# Altium integrated library BB Converter Analog to Digital.IntLib: 242 symbols (part 4 of 6)
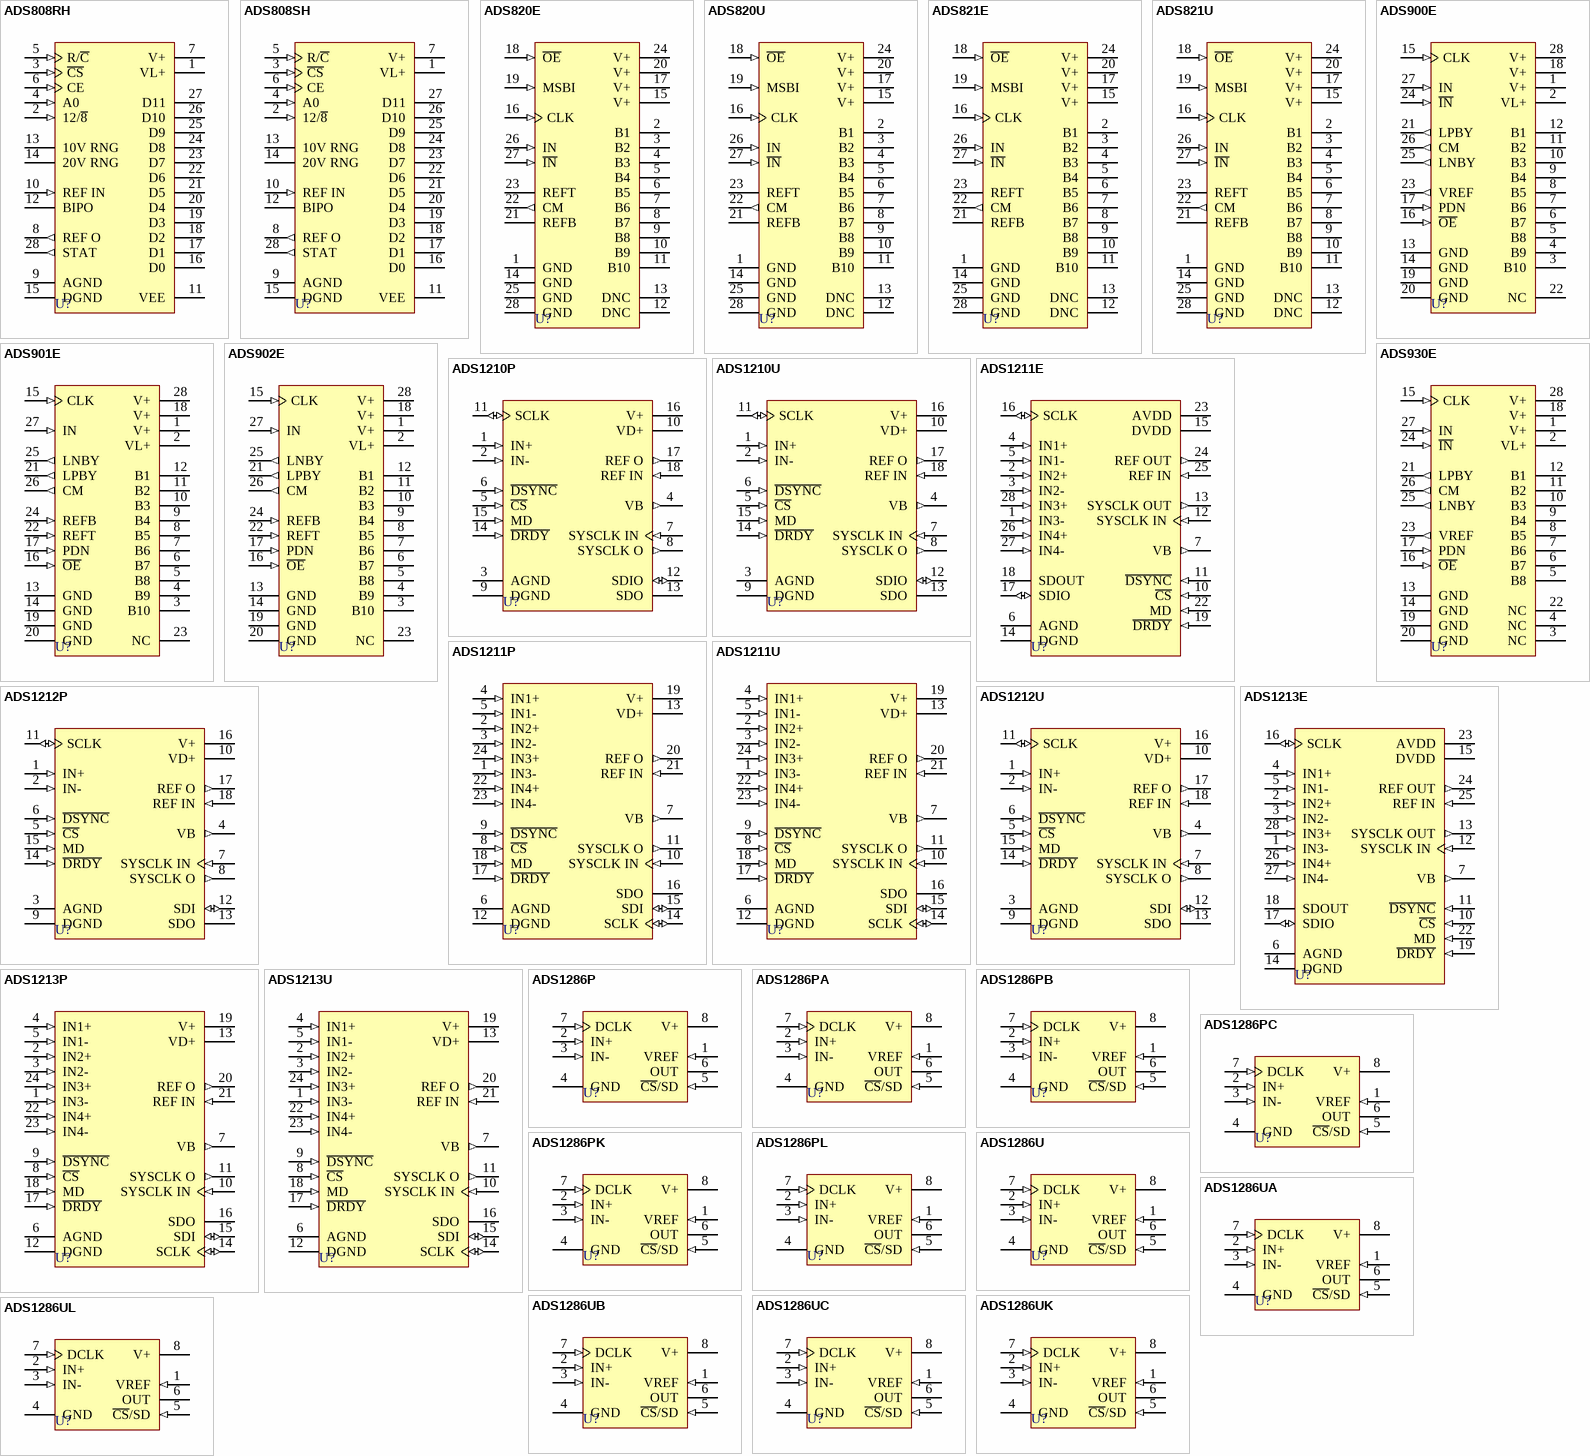
[diagram p12: symbols ADS808RH to ADS1286UL]

## ADS1286UL
designator U?
12-Bit Micro Power Sampling Analog-to-Digital Converter; Published: 8-Jun-2000; LatestRevisionDate: 13-Apr-2006; LatestRevisionNote: IPC-7351 Footprint Added.; DatasheetVersion: Oct-1998; PackageReference: 182H; Publisher: Altium Limited; PackageDescription: 8-Pin Small Outline Integrated Circuit 1.27 mm Pitch; Code_JEDEC: MS-012-AA; Code_IPC: SOIC127P600-8; ComponentLink1Description: Manufacturer Link; ComponentLink1URL: http://www.ti.com/; ComponentLink2Description: Datasheet; ComponentLink2URL: http://www-s.ti.com/sc/ds/ads1286.pdf
footprint 182H_N (SOIC, 8-Leads, Body 4.9x3.9mm, Pitch 1.27mm, IPC Medium Density)
footprint 182H_L (SOIC, 8-Leads, Body 4.9x3.9mm, Pitch 1.27mm, IPC High Density)
footprint 182H_M (SOIC, 8-Leads, Body 4.9x3.9mm, Pitch 1.27mm, IPC Low Density)
3D model SOIC8 (8-Pin Small Outline Integrated Circuit 1.27 mm Pitch)
pins: 1 VREF (in), 2 IN+ (in), 3 IN- (in), 4 GND (power), 5 ~{CS}/SD (in), 6 OUT (hiz), 7 DCLK (in), 8 V+ (power)

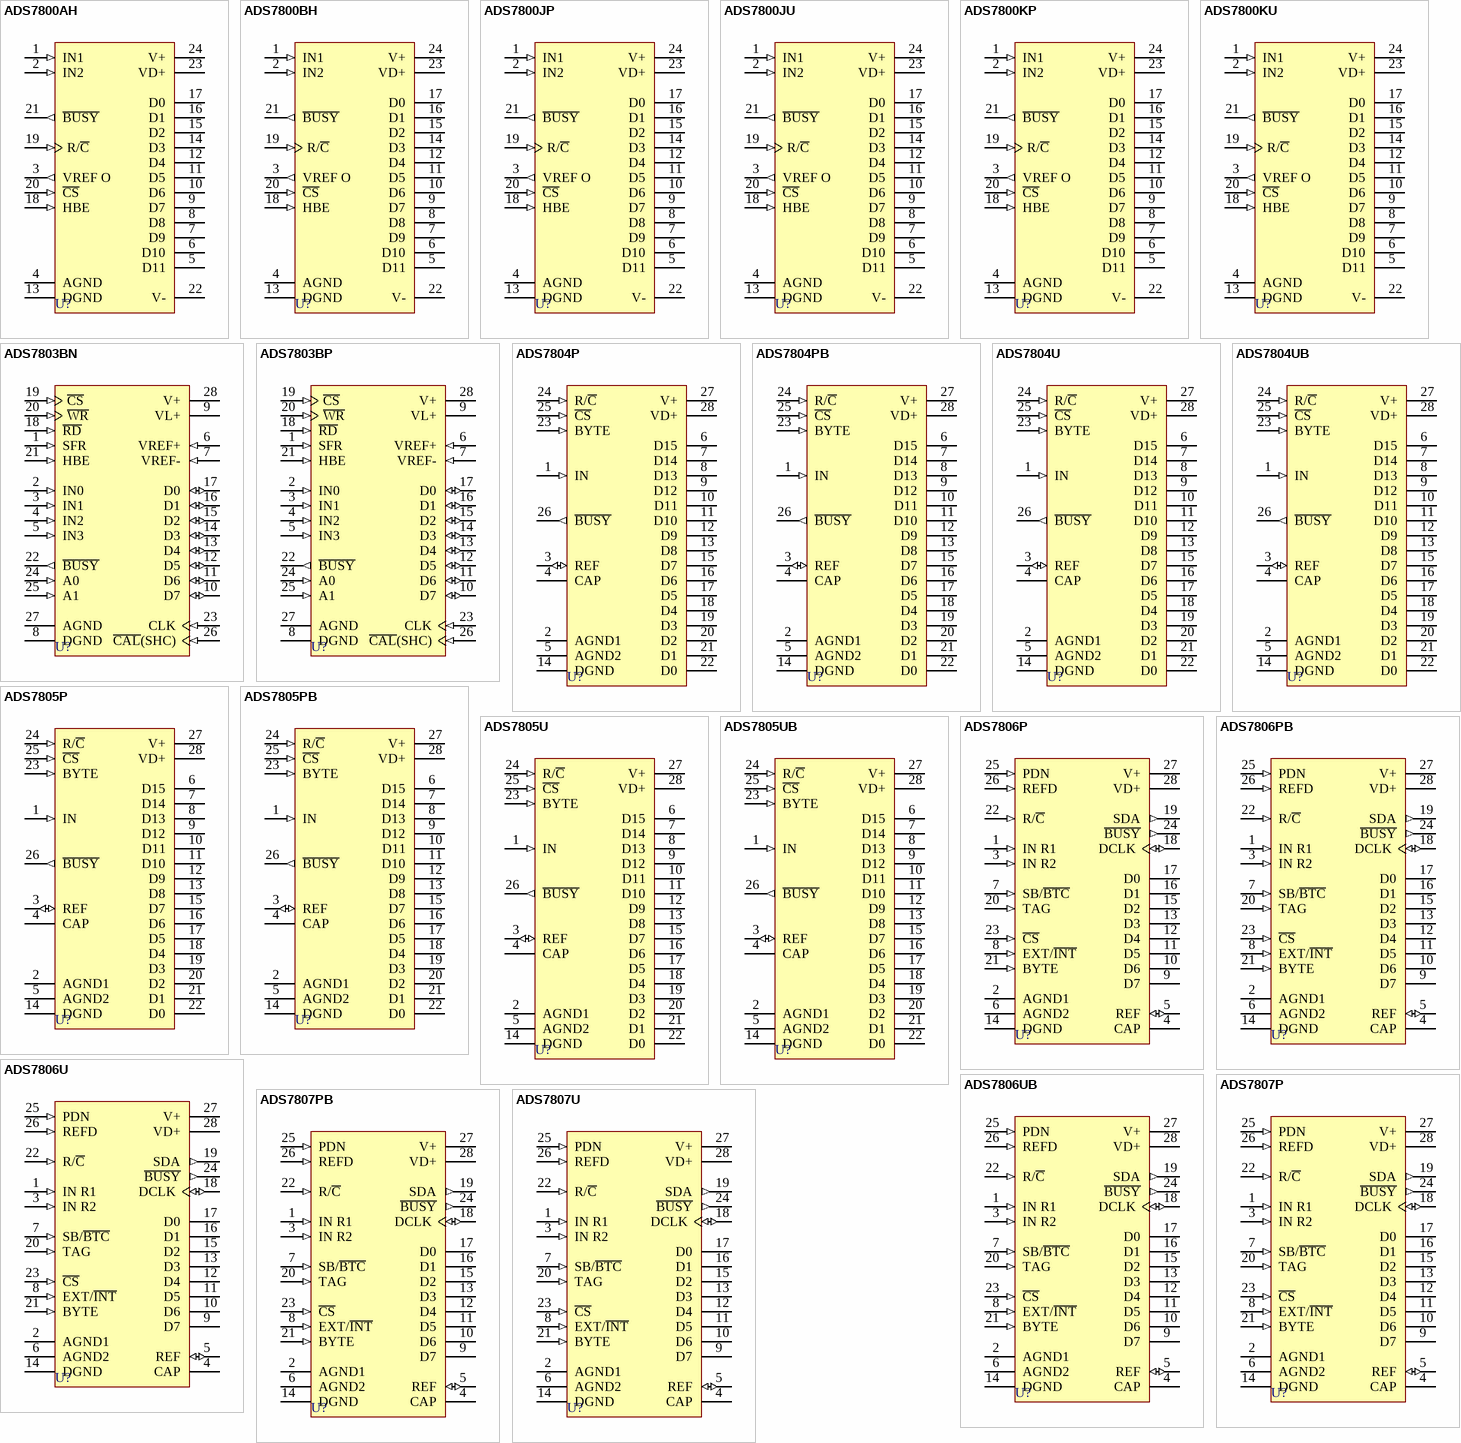
[diagram p6: symbols ADS7800AH to ADS7807U]

## ADS7800AH
designator U?
12-Bit 3us Sampling Analog-to-Digital Converter; Published: 8-Jun-2000; LatestRevisionDate: 06-Jun-2005; LatestRevisionNote: Stylized 3D Model Added.; DatasheetVersion: Oct-1993; PackageVersion: 1994; PackageReference: 245; Publisher: Altium Limited; PackageDescription: DIP; 24 Leads; Row Spacing 7.62 mm; Pitch 2.54 mm; ComponentLink1Description: Manufacturer Link; ComponentLink1URL: http://www.ti.com/; ComponentLink2Description: Datasheet; ComponentLink2URL: http://www-s.ti.com/sc/ds/ADS7800.pdf
footprint 245 (DIP; 24 Leads; Row Spacing 7.62 mm; Pitch 2.54 mm)
3D model 243-3A (DIP; 24 Leads; Row Spacing 7.62 mm; Pitch 2.54 mm)
pins: 1 IN1 (in), 2 IN2 (in), 3 VREF O (out), 4 AGND (power), 5 D11 (hiz), 6 D10 (hiz), 7 D9 (hiz), 8 D8 (hiz), 9 D7 (hiz), 10 D6 (hiz), 11 D5 (hiz), 12 D4 (hiz), 13 DGND (power), 14 D3 (hiz), 15 D2 (hiz), 16 D1 (hiz), 17 D0 (hiz), 18 HBE (in), 19 R/~{C} (in), 20 ~{CS} (in), 21 ~{BUSY} (out), 22 V- (power), 23 VD+ (power), 24 V+ (power)

## ADS7800BH
designator U?
12-Bit 3us Sampling Analog-to-Digital Converter; Published: 8-Jun-2000; LatestRevisionDate: 06-Jun-2005; LatestRevisionNote: Stylized 3D Model Added.; DatasheetVersion: Oct-1993; PackageVersion: 1994; PackageReference: 245; Publisher: Altium Limited; PackageDescription: DIP; 24 Leads; Row Spacing 7.62 mm; Pitch 2.54 mm; ComponentLink1Description: Manufacturer Link; ComponentLink1URL: http://www.ti.com/; ComponentLink2Description: Datasheet; ComponentLink2URL: http://www-s.ti.com/sc/ds/ADS7800.pdf
footprint 245 (DIP; 24 Leads; Row Spacing 7.62 mm; Pitch 2.54 mm)
3D model 243-3A (DIP; 24 Leads; Row Spacing 7.62 mm; Pitch 2.54 mm)
pins: 1 IN1 (in), 2 IN2 (in), 3 VREF O (out), 4 AGND (power), 5 D11 (hiz), 6 D10 (hiz), 7 D9 (hiz), 8 D8 (hiz), 9 D7 (hiz), 10 D6 (hiz), 11 D5 (hiz), 12 D4 (hiz), 13 DGND (power), 14 D3 (hiz), 15 D2 (hiz), 16 D1 (hiz), 17 D0 (hiz), 18 HBE (in), 19 R/~{C} (in), 20 ~{CS} (in), 21 ~{BUSY} (out), 22 V- (power), 23 VD+ (power), 24 V+ (power)

## ADS7800JP
designator U?
12-Bit 3us Sampling Analog-to-Digital Converter; Published: 8-Jun-2000; LatestRevisionDate: 06-Jun-2005; LatestRevisionNote: Stylized 3D Model Added.; DatasheetVersion: Oct-1993; PackageVersion: revD; PackageReference: 243D; Publisher: Altium Limited; PackageDescription: DIP; 24 Leads; Row Spacing 7.62 mm; Pitch 2.54 mm; Code_JEDEC: MS-001-AF; ComponentLink1Description: Manufacturer Link; ComponentLink1URL: http://www.ti.com/; ComponentLink2Description: Datasheet; ComponentLink2URL: http://www-s.ti.com/sc/ds/ADS7800.pdf
footprint 243D (DIP; 24 Leads; Row Spacing 7.62 mm; Pitch 2.54 mm)
3D model 243 (DIP; 24 Leads; Row Spacing 7.62 mm; Pitch 2.54 mm)
pins: 1 IN1 (in), 2 IN2 (in), 3 VREF O (out), 4 AGND (power), 5 D11 (hiz), 6 D10 (hiz), 7 D9 (hiz), 8 D8 (hiz), 9 D7 (hiz), 10 D6 (hiz), 11 D5 (hiz), 12 D4 (hiz), 13 DGND (power), 14 D3 (hiz), 15 D2 (hiz), 16 D1 (hiz), 17 D0 (hiz), 18 HBE (in), 19 R/~{C} (in), 20 ~{CS} (in), 21 ~{BUSY} (out), 22 V- (power), 23 VD+ (power), 24 V+ (power)

## ADS7800JU
designator U?
12-Bit 3us Sampling Analog-to-Digital Converter; Published: 8-Jun-2000; LatestRevisionDate: 13-Apr-2006; LatestRevisionNote: IPC-7351 Footprint Added.; DatasheetVersion: Oct-1993; PackageReference: 239E; Publisher: Altium Limited; PackageDescription: 24-Pin Small Outline Integrated Circuit 1.27 mm Pitch; ComponentLink1Description: Manufacturer Link; ComponentLink1URL: http://www.ti.com/; ComponentLink2Description: Datasheet; ComponentLink2URL: http://www-s.ti.com/sc/ds/ADS7800.pdf
footprint 239E_N (SOIC, 24-Leads, Body 15.4x7.5mm, Pitch 1.27mm, IPC Medium Density)
footprint 239E_L (SOIC, 24-Leads, Body 15.4x7.5mm, Pitch 1.27mm, IPC High Density)
footprint 239E_M (SOIC, 24-Leads, Body 15.4x7.5mm, Pitch 1.27mm, IPC Low Density)
3D model 239 (24-Pin Small Outline Integrated Circuit 1.27 mm Pitch)
pins: 1 IN1 (in), 2 IN2 (in), 3 VREF O (out), 4 AGND (power), 5 D11 (hiz), 6 D10 (hiz), 7 D9 (hiz), 8 D8 (hiz), 9 D7 (hiz), 10 D6 (hiz), 11 D5 (hiz), 12 D4 (hiz), 13 DGND (power), 14 D3 (hiz), 15 D2 (hiz), 16 D1 (hiz), 17 D0 (hiz), 18 HBE (in), 19 R/~{C} (in), 20 ~{CS} (in), 21 ~{BUSY} (out), 22 V- (power), 23 VD+ (power), 24 V+ (power)

## ADS7800KP
designator U?
12-Bit 3us Sampling Analog-to-Digital Converter; Published: 8-Jun-2000; LatestRevisionDate: 06-Jun-2005; LatestRevisionNote: Stylized 3D Model Added.; DatasheetVersion: Oct-1993; PackageVersion: 1995; PackageReference: 243; Publisher: Altium Limited; PackageDescription: DIP; 24 Leads; Row Spacing 7.62 mm; Pitch 2.54 mm; Code_JEDEC: MS-001-AF; ComponentLink1Description: Manufacturer Link; ComponentLink1URL: http://www.ti.com/; ComponentLink2Description: Datasheet; ComponentLink2URL: http://www-s.ti.com/sc/ds/ADS7800.pdf
footprint 243 (DIP; 24 Leads; Row Spacing 7.62 mm; Pitch 2.54 mm)
3D model 243 (DIP; 24 Leads; Row Spacing 7.62 mm; Pitch 2.54 mm)
pins: 1 IN1 (in), 2 IN2 (in), 3 VREF O (out), 4 AGND (power), 5 D11 (hiz), 6 D10 (hiz), 7 D9 (hiz), 8 D8 (hiz), 9 D7 (hiz), 10 D6 (hiz), 11 D5 (hiz), 12 D4 (hiz), 13 DGND (power), 14 D3 (hiz), 15 D2 (hiz), 16 D1 (hiz), 17 D0 (hiz), 18 HBE (in), 19 R/~{C} (in), 20 ~{CS} (in), 21 ~{BUSY} (out), 22 V- (power), 23 VD+ (power), 24 V+ (power)

## ADS7800KU
designator U?
12-Bit 3us Sampling Analog-to-Digital Converter; Published: 8-Jun-2000; LatestRevisionDate: 13-Apr-2006; LatestRevisionNote: IPC-7351 Footprint Added.; DatasheetVersion: Oct-1993; PackageReference: 239E; Publisher: Altium Limited; PackageDescription: 24-Pin Small Outline Integrated Circuit 1.27 mm Pitch; ComponentLink1Description: Manufacturer Link; ComponentLink1URL: http://www.ti.com/; ComponentLink2Description: Datasheet; ComponentLink2URL: http://www-s.ti.com/sc/ds/ADS7800.pdf
footprint 239E_N (SOIC, 24-Leads, Body 15.4x7.5mm, Pitch 1.27mm, IPC Medium Density)
footprint 239E_L (SOIC, 24-Leads, Body 15.4x7.5mm, Pitch 1.27mm, IPC High Density)
footprint 239E_M (SOIC, 24-Leads, Body 15.4x7.5mm, Pitch 1.27mm, IPC Low Density)
3D model 239 (24-Pin Small Outline Integrated Circuit 1.27 mm Pitch)
pins: 1 IN1 (in), 2 IN2 (in), 3 VREF O (out), 4 AGND (power), 5 D11 (hiz), 6 D10 (hiz), 7 D9 (hiz), 8 D8 (hiz), 9 D7 (hiz), 10 D6 (hiz), 11 D5 (hiz), 12 D4 (hiz), 13 DGND (power), 14 D3 (hiz), 15 D2 (hiz), 16 D1 (hiz), 17 D0 (hiz), 18 HBE (in), 19 R/~{C} (in), 20 ~{CS} (in), 21 ~{BUSY} (out), 22 V- (power), 23 VD+ (power), 24 V+ (power)

## ADS7803BN
designator U?
Autocalibrating, 4-Channel, 12-Bit Analog-to-Digital Converter; Published: 8-Jun-2000; LatestRevisionDate: 13-Apr-2006; LatestRevisionNote: IPC-7351 Footprint Added.; DatasheetVersion: 1994; PackageReference: 251A; Publisher: Altium Limited; PackageDescription: 28-Pin Leaded Chip Carrier 1.27 mm Pitch; ComponentLink1Description: Manufacturer Link; ComponentLink1URL: http://www.ti.com/
footprint 251A_N (Leaded Chip Carrier, 28-Leads, Body 11.6x11.6mm, Pitch 1.27mm, IPC Medium Density)
footprint 251A_L (Leaded Chip Carrier, 28-Leads, Body 11.6x11.6mm, Pitch 1.27mm, IPC High Density)
footprint 251A_M (Leaded Chip Carrier, 28-Leads, Body 11.6x11.6mm, Pitch 1.27mm, IPC Low Density)
3D model ADS7803BN-LCC28 (28-Pin Leaded Chip Carrier 1.27 mm Pitch)
pins: 1 SFR (in), 2 IN0 (in), 3 IN1 (in), 4 IN2 (in), 5 IN3 (in), 6 VREF+ (in), 7 VREF- (in), 8 DGND (power), 9 VL+ (power), 10 D7 (io), 11 D6 (io), 12 D5 (io), 13 D4 (io), 14 D3 (io), 15 D2 (io), 16 D1 (io), 17 D0 (io), 18 ~{RD} (in), 19 ~{CS} (in), 20 ~{WR} (in), 21 HBE (in), 22 ~{BUSY} (out), 23 CLK (in), 24 A0 (in), 25 A1 (in), 26 ~{CAL}(SHC) (in), 27 AGND (power), 28 V+ (power)

## ADS7803BP
designator U?
Autocalibrating, 4-Channel, 12-Bit Analog-to-Digital Converter; Published: 8-Jun-2000; LatestRevisionDate: 06-Jun-2005; LatestRevisionNote: Stylized 3D Model Added.; DatasheetVersion: 1994; PackageVersion: revJ; PackageReference: 215J; Publisher: Altium Limited; PackageDescription: DIP; 28 Leads; Row Spacing 15.24 mm; Pitch 2.54 mm; Code_JEDEC: MS-011-AB; ComponentLink1Description: Manufacturer Link; ComponentLink1URL: http://www.ti.com/
footprint 215J (DIP; 28 Leads; Row Spacing 15.24 mm; Pitch 2.54 mm)
3D model 215J (DIP; 28 Leads; Row Spacing 15.24 mm; Pitch 2.54 mm)
pins: 1 SFR (in), 2 IN0 (in), 3 IN1 (in), 4 IN2 (in), 5 IN3 (in), 6 VREF+ (in), 7 VREF- (in), 8 DGND (power), 9 VL+ (power), 10 D7 (io), 11 D6 (io), 12 D5 (io), 13 D4 (io), 14 D3 (io), 15 D2 (io), 16 D1 (io), 17 D0 (io), 18 ~{RD} (in), 19 ~{CS} (in), 20 ~{WR} (in), 21 HBE (in), 22 ~{BUSY} (out), 23 CLK (in), 24 A0 (in), 25 A1 (in), 26 ~{CAL}(SHC) (in), 27 AGND (power), 28 V+ (power)

## ADS7804P
designator U?
12-Bit 10us Sampling CMOS Analog-to-Digital Converter; Published: 8-Jun-2000; LatestRevisionDate: 06-Jun-2005; LatestRevisionNote: Stylized 3D Model Added.; DatasheetVersion: Feb-1996; PackageVersion: revD; PackageReference: 246D; Publisher: Altium Limited; PackageDescription: DIP; 28 Leads; Row Spacing 7.62 mm; Pitch 2.54 mm; ComponentLink1Description: Manufacturer Link; ComponentLink1URL: http://www.ti.com/; ComponentLink2Description: Datasheet; ComponentLink2URL: http://www-s.ti.com/sc/ds/ADS7804.pdf
footprint 246D (DIP; 28 Leads; Row Spacing 7.62 mm; Pitch 2.54 mm)
3D model 246D (DIP; 28 Leads; Row Spacing 7.62 mm; Pitch 2.54 mm)
pins: 1 IN (in), 2 AGND1 (power), 3 REF (io), 4 CAP, 5 AGND2 (power), 6 D15 (hiz), 7 D14 (hiz), 8 D13 (hiz), 9 D12 (hiz), 10 D11 (hiz), 11 D10 (hiz), 12 D9 (hiz), 13 D8 (hiz), 14 DGND (power), 15 D7 (hiz), 16 D6 (hiz), 17 D5 (hiz), 18 D4 (hiz), 19 D3 (hiz), 20 D2 (hiz), 21 D1 (hiz), 22 D0 (hiz), 23 BYTE (in), 24 R/~{C} (in), 25 ~{CS} (in), 26 ~{BUSY} (out), 27 V+ (power), 28 VD+ (power)

## ADS7804PB
designator U?
12-Bit 10us Sampling CMOS Analog-to-Digital Converter; Published: 8-Jun-2000; LatestRevisionDate: 06-Jun-2005; LatestRevisionNote: Stylized 3D Model Added.; DatasheetVersion: Feb-1996; PackageVersion: revD; PackageReference: 246D; Publisher: Altium Limited; PackageDescription: DIP; 28 Leads; Row Spacing 7.62 mm; Pitch 2.54 mm; ComponentLink1Description: Manufacturer Link; ComponentLink1URL: http://www.ti.com/; ComponentLink2Description: Datasheet; ComponentLink2URL: http://www-s.ti.com/sc/ds/ADS7804.pdf
footprint 246D (DIP; 28 Leads; Row Spacing 7.62 mm; Pitch 2.54 mm)
3D model 246D (DIP; 28 Leads; Row Spacing 7.62 mm; Pitch 2.54 mm)
pins: 1 IN (in), 2 AGND1 (power), 3 REF (io), 4 CAP, 5 AGND2 (power), 6 D15 (hiz), 7 D14 (hiz), 8 D13 (hiz), 9 D12 (hiz), 10 D11 (hiz), 11 D10 (hiz), 12 D9 (hiz), 13 D8 (hiz), 14 DGND (power), 15 D7 (hiz), 16 D6 (hiz), 17 D5 (hiz), 18 D4 (hiz), 19 D3 (hiz), 20 D2 (hiz), 21 D1 (hiz), 22 D0 (hiz), 23 BYTE (in), 24 R/~{C} (in), 25 ~{CS} (in), 26 ~{BUSY} (out), 27 V+ (power), 28 VD+ (power)

## ADS7804U
designator U?
12-Bit 10us Sampling CMOS Analog-to-Digital Converter; Published: 8-Jun-2000; LatestRevisionDate: 13-Apr-2006; LatestRevisionNote: IPC-7351 Footprint Added.; DatasheetVersion: Feb-1996; PackageReference: 217G; Publisher: Altium Limited; PackageDescription: 28-Pin Small Outline Integrated Circuit 1.27 mm Pitch; ComponentLink1Description: Manufacturer Link; ComponentLink1URL: http://www.ti.com/; ComponentLink2Description: Datasheet; ComponentLink2URL: http://www-s.ti.com/sc/ds/ADS7804.pdf
footprint 217G_N (SOIC, 28-Leads, Body 17.9x7.5mm, Pitch 1.27mm, IPC Medium Density)
footprint 217G_L (SOIC, 28-Leads, Body 17.9x7.5mm, Pitch 1.27mm, IPC High Density)
footprint 217G_M (SOIC, 28-Leads, Body 17.9x7.5mm, Pitch 1.27mm, IPC Low Density)
3D model 217G (28-Pin Small Outline Integrated Circuit 1.27 mm Pitch)
pins: 1 IN (in), 2 AGND1 (power), 3 REF (io), 4 CAP, 5 AGND2 (power), 6 D15 (hiz), 7 D14 (hiz), 8 D13 (hiz), 9 D12 (hiz), 10 D11 (hiz), 11 D10 (hiz), 12 D9 (hiz), 13 D8 (hiz), 14 DGND (power), 15 D7 (hiz), 16 D6 (hiz), 17 D5 (hiz), 18 D4 (hiz), 19 D3 (hiz), 20 D2 (hiz), 21 D1 (hiz), 22 D0 (hiz), 23 BYTE (in), 24 R/~{C} (in), 25 ~{CS} (in), 26 ~{BUSY} (out), 27 V+ (power), 28 VD+ (power)

## ADS7804UB
designator U?
12-Bit 10us Sampling CMOS Analog-to-Digital Converter; Published: 8-Jun-2000; LatestRevisionDate: 13-Apr-2006; LatestRevisionNote: IPC-7351 Footprint Added.; DatasheetVersion: Feb-1996; PackageReference: 217G; Publisher: Altium Limited; PackageDescription: 28-Pin Small Outline Integrated Circuit 1.27 mm Pitch; ComponentLink1Description: Manufacturer Link; ComponentLink1URL: http://www.ti.com/; ComponentLink2Description: Datasheet; ComponentLink2URL: http://www-s.ti.com/sc/ds/ADS7804.pdf
footprint 217G_N (SOIC, 28-Leads, Body 17.9x7.5mm, Pitch 1.27mm, IPC Medium Density)
footprint 217G_L (SOIC, 28-Leads, Body 17.9x7.5mm, Pitch 1.27mm, IPC High Density)
footprint 217G_M (SOIC, 28-Leads, Body 17.9x7.5mm, Pitch 1.27mm, IPC Low Density)
3D model 217G (28-Pin Small Outline Integrated Circuit 1.27 mm Pitch)
pins: 1 IN (in), 2 AGND1 (power), 3 REF (io), 4 CAP, 5 AGND2 (power), 6 D15 (hiz), 7 D14 (hiz), 8 D13 (hiz), 9 D12 (hiz), 10 D11 (hiz), 11 D10 (hiz), 12 D9 (hiz), 13 D8 (hiz), 14 DGND (power), 15 D7 (hiz), 16 D6 (hiz), 17 D5 (hiz), 18 D4 (hiz), 19 D3 (hiz), 20 D2 (hiz), 21 D1 (hiz), 22 D0 (hiz), 23 BYTE (in), 24 R/~{C} (in), 25 ~{CS} (in), 26 ~{BUSY} (out), 27 V+ (power), 28 VD+ (power)

## ADS7805P
designator U?
16-Bit 10us Sampling CMOS Analog-to-Digital Converter; Published: 8-Jun-2000; LatestRevisionDate: 06-Jun-2005; LatestRevisionNote: Stylized 3D Model Added.; DatasheetVersion: Aug-1996; PackageVersion: revD; PackageReference: 246D; Publisher: Altium Limited; PackageDescription: DIP; 28 Leads; Row Spacing 7.62 mm; Pitch 2.54 mm; ComponentLink1Description: Manufacturer Link; ComponentLink1URL: http://www.ti.com/; ComponentLink2Description: Datasheet; ComponentLink2URL: http://www-s.ti.com/sc/ds/ADS7805.pdf
footprint 246D (DIP; 28 Leads; Row Spacing 7.62 mm; Pitch 2.54 mm)
3D model 246D (DIP; 28 Leads; Row Spacing 7.62 mm; Pitch 2.54 mm)
pins: 1 IN (in), 2 AGND1 (power), 3 REF (io), 4 CAP, 5 AGND2 (power), 6 D15 (hiz), 7 D14 (hiz), 8 D13 (hiz), 9 D12 (hiz), 10 D11 (hiz), 11 D10 (hiz), 12 D9 (hiz), 13 D8 (hiz), 14 DGND (power), 15 D7 (hiz), 16 D6 (hiz), 17 D5 (hiz), 18 D4 (hiz), 19 D3 (hiz), 20 D2 (hiz), 21 D1 (hiz), 22 D0 (hiz), 23 BYTE (in), 24 R/~{C} (in), 25 ~{CS} (in), 26 ~{BUSY} (out), 27 V+ (power), 28 VD+ (power)

## ADS7805PB
designator U?
16-Bit 10us Sampling CMOS Analog-to-Digital Converter; Published: 8-Jun-2000; LatestRevisionDate: 06-Jun-2005; LatestRevisionNote: Stylized 3D Model Added.; DatasheetVersion: Aug-1996; PackageVersion: revD; PackageReference: 246D; Publisher: Altium Limited; PackageDescription: DIP; 28 Leads; Row Spacing 7.62 mm; Pitch 2.54 mm; ComponentLink1Description: Manufacturer Link; ComponentLink1URL: http://www.ti.com/; ComponentLink2Description: Datasheet; ComponentLink2URL: http://www-s.ti.com/sc/ds/ADS7805.pdf
footprint 246D (DIP; 28 Leads; Row Spacing 7.62 mm; Pitch 2.54 mm)
3D model 246D (DIP; 28 Leads; Row Spacing 7.62 mm; Pitch 2.54 mm)
pins: 1 IN (in), 2 AGND1 (power), 3 REF (io), 4 CAP, 5 AGND2 (power), 6 D15 (hiz), 7 D14 (hiz), 8 D13 (hiz), 9 D12 (hiz), 10 D11 (hiz), 11 D10 (hiz), 12 D9 (hiz), 13 D8 (hiz), 14 DGND (power), 15 D7 (hiz), 16 D6 (hiz), 17 D5 (hiz), 18 D4 (hiz), 19 D3 (hiz), 20 D2 (hiz), 21 D1 (hiz), 22 D0 (hiz), 23 BYTE (in), 24 R/~{C} (in), 25 ~{CS} (in), 26 ~{BUSY} (out), 27 V+ (power), 28 VD+ (power)

## ADS7805U
designator U?
16-Bit 10us Sampling CMOS Analog-to-Digital Converter; Published: 8-Jun-2000; LatestRevisionDate: 13-Apr-2006; LatestRevisionNote: IPC-7351 Footprint Added.; DatasheetVersion: Aug-1996; PackageReference: 217G; Publisher: Altium Limited; PackageDescription: 28-Pin Small Outline Integrated Circuit 1.27 mm Pitch; ComponentLink1Description: Manufacturer Link; ComponentLink1URL: http://www.ti.com/; ComponentLink2Description: Datasheet; ComponentLink2URL: http://www-s.ti.com/sc/ds/ADS7805.pdf
footprint 217G_N (SOIC, 28-Leads, Body 17.9x7.5mm, Pitch 1.27mm, IPC Medium Density)
footprint 217G_L (SOIC, 28-Leads, Body 17.9x7.5mm, Pitch 1.27mm, IPC High Density)
footprint 217G_M (SOIC, 28-Leads, Body 17.9x7.5mm, Pitch 1.27mm, IPC Low Density)
3D model 217G (28-Pin Small Outline Integrated Circuit 1.27 mm Pitch)
pins: 1 IN (in), 2 AGND1 (power), 3 REF (io), 4 CAP, 5 AGND2 (power), 6 D15 (hiz), 7 D14 (hiz), 8 D13 (hiz), 9 D12 (hiz), 10 D11 (hiz), 11 D10 (hiz), 12 D9 (hiz), 13 D8 (hiz), 14 DGND (power), 15 D7 (hiz), 16 D6 (hiz), 17 D5 (hiz), 18 D4 (hiz), 19 D3 (hiz), 20 D2 (hiz), 21 D1 (hiz), 22 D0 (hiz), 23 BYTE (in), 24 R/~{C} (in), 25 ~{CS} (in), 26 ~{BUSY} (out), 27 V+ (power), 28 VD+ (power)

## ADS7805UB
designator U?
16-Bit 10us Sampling CMOS Analog-to-Digital Converter; Published: 8-Jun-2000; LatestRevisionDate: 13-Apr-2006; LatestRevisionNote: IPC-7351 Footprint Added.; DatasheetVersion: Aug-1996; PackageReference: 217G; Publisher: Altium Limited; PackageDescription: 28-Pin Small Outline Integrated Circuit 1.27 mm Pitch; ComponentLink1Description: Manufacturer Link; ComponentLink1URL: http://www.ti.com/; ComponentLink2Description: Datasheet; ComponentLink2URL: http://www-s.ti.com/sc/ds/ADS7805.pdf
footprint 217G_N (SOIC, 28-Leads, Body 17.9x7.5mm, Pitch 1.27mm, IPC Medium Density)
footprint 217G_L (SOIC, 28-Leads, Body 17.9x7.5mm, Pitch 1.27mm, IPC High Density)
footprint 217G_M (SOIC, 28-Leads, Body 17.9x7.5mm, Pitch 1.27mm, IPC Low Density)
3D model 217G (28-Pin Small Outline Integrated Circuit 1.27 mm Pitch)
pins: 1 IN (in), 2 AGND1 (power), 3 REF (io), 4 CAP, 5 AGND2 (power), 6 D15 (hiz), 7 D14 (hiz), 8 D13 (hiz), 9 D12 (hiz), 10 D11 (hiz), 11 D10 (hiz), 12 D9 (hiz), 13 D8 (hiz), 14 DGND (power), 15 D7 (hiz), 16 D6 (hiz), 17 D5 (hiz), 18 D4 (hiz), 19 D3 (hiz), 20 D2 (hiz), 21 D1 (hiz), 22 D0 (hiz), 23 BYTE (in), 24 R/~{C} (in), 25 ~{CS} (in), 26 ~{BUSY} (out), 27 V+ (power), 28 VD+ (power)

## ADS7806P
designator U?
Low-Power 12-Bit Sampling CMOS Analog-to-Digital Converter; Published: 8-Jun-2000; LatestRevisionDate: 06-Jun-2005; LatestRevisionNote: Stylized 3D Model Added.; DatasheetVersion: Nov-1994; PackageVersion: revD; PackageReference: 246D; Publisher: Altium Limited; PackageDescription: DIP; 28 Leads; Row Spacing 7.62 mm; Pitch 2.54 mm; ComponentLink1Description: Manufacturer Link; ComponentLink1URL: http://www.ti.com/; ComponentLink2Description: Datasheet; ComponentLink2URL: http://www-s.ti.com/sc/ds/ADS7806.pdf
footprint 246D (DIP; 28 Leads; Row Spacing 7.62 mm; Pitch 2.54 mm)
3D model 246D (DIP; 28 Leads; Row Spacing 7.62 mm; Pitch 2.54 mm)
pins: 1 IN R1 (in), 2 AGND1 (power), 3 IN R2 (in), 4 CAP, 5 REF (io), 6 AGND2 (power), 7 SB/~{BTC} (in), 8 EXT/~{INT} (in), 9 D7 (hiz), 10 D6 (hiz), 11 D5 (hiz), 12 D4 (hiz), 13 D3 (hiz), 14 DGND (power), 15 D2 (hiz), 16 D1 (hiz), 17 D0 (hiz), 18 DCLK (io), 19 SDA (out), 20 TAG (in), 21 BYTE (in), 22 R/~{C} (in), 23 ~{CS} (in), 24 ~{BUSY} (out), 25 PDN (in), 26 REFD (in), 27 V+ (power), 28 VD+ (power)

## ADS7806PB
designator U?
Low-Power 12-Bit Sampling CMOS Analog-to-Digital Converter; Published: 8-Jun-2000; LatestRevisionDate: 06-Jun-2005; LatestRevisionNote: Stylized 3D Model Added.; DatasheetVersion: Nov-1994; PackageVersion: revD; PackageReference: 246D; Publisher: Altium Limited; PackageDescription: DIP; 28 Leads; Row Spacing 7.62 mm; Pitch 2.54 mm; ComponentLink1Description: Manufacturer Link; ComponentLink1URL: http://www.ti.com/; ComponentLink2Description: Datasheet; ComponentLink2URL: http://www-s.ti.com/sc/ds/ADS7806.pdf
footprint 246D (DIP; 28 Leads; Row Spacing 7.62 mm; Pitch 2.54 mm)
3D model 246D (DIP; 28 Leads; Row Spacing 7.62 mm; Pitch 2.54 mm)
pins: 1 IN R1 (in), 2 AGND1 (power), 3 IN R2 (in), 4 CAP, 5 REF (io), 6 AGND2 (power), 7 SB/~{BTC} (in), 8 EXT/~{INT} (in), 9 D7 (hiz), 10 D6 (hiz), 11 D5 (hiz), 12 D4 (hiz), 13 D3 (hiz), 14 DGND (power), 15 D2 (hiz), 16 D1 (hiz), 17 D0 (hiz), 18 DCLK (io), 19 SDA (out), 20 TAG (in), 21 BYTE (in), 22 R/~{C} (in), 23 ~{CS} (in), 24 ~{BUSY} (out), 25 PDN (in), 26 REFD (in), 27 V+ (power), 28 VD+ (power)

## ADS7806U
designator U?
Low-Power 12-Bit Sampling CMOS Analog-to-Digital Converter; Published: 8-Jun-2000; LatestRevisionDate: 13-Apr-2006; LatestRevisionNote: IPC-7351 Footprint Added.; DatasheetVersion: Nov-1994; PackageReference: 217G; Publisher: Altium Limited; PackageDescription: 28-Pin Small Outline Integrated Circuit 1.27 mm Pitch; ComponentLink1Description: Manufacturer Link; ComponentLink1URL: http://www.ti.com/; ComponentLink2Description: Datasheet; ComponentLink2URL: http://www-s.ti.com/sc/ds/ADS7806.pdf
footprint 217G_N (SOIC, 28-Leads, Body 17.9x7.5mm, Pitch 1.27mm, IPC Medium Density)
footprint 217G_L (SOIC, 28-Leads, Body 17.9x7.5mm, Pitch 1.27mm, IPC High Density)
footprint 217G_M (SOIC, 28-Leads, Body 17.9x7.5mm, Pitch 1.27mm, IPC Low Density)
3D model 217G (28-Pin Small Outline Integrated Circuit 1.27 mm Pitch)
pins: 1 IN R1 (in), 2 AGND1 (power), 3 IN R2 (in), 4 CAP, 5 REF (io), 6 AGND2 (power), 7 SB/~{BTC} (in), 8 EXT/~{INT} (in), 9 D7 (hiz), 10 D6 (hiz), 11 D5 (hiz), 12 D4 (hiz), 13 D3 (hiz), 14 DGND (power), 15 D2 (hiz), 16 D1 (hiz), 17 D0 (hiz), 18 DCLK (io), 19 SDA (out), 20 TAG (in), 21 BYTE (in), 22 R/~{C} (in), 23 ~{CS} (in), 24 ~{BUSY} (out), 25 PDN (in), 26 REFD (in), 27 V+ (power), 28 VD+ (power)

## ADS7806UB
designator U?
Low-Power 12-Bit Sampling CMOS Analog-to-Digital Converter; Published: 8-Jun-2000; LatestRevisionDate: 13-Apr-2006; LatestRevisionNote: IPC-7351 Footprint Added.; DatasheetVersion: Nov-1994; PackageReference: 217G; Publisher: Altium Limited; PackageDescription: 28-Pin Small Outline Integrated Circuit 1.27 mm Pitch; ComponentLink1Description: Manufacturer Link; ComponentLink1URL: http://www.ti.com/; ComponentLink2Description: Datasheet; ComponentLink2URL: http://www-s.ti.com/sc/ds/ADS7806.pdf
footprint 217G_N (SOIC, 28-Leads, Body 17.9x7.5mm, Pitch 1.27mm, IPC Medium Density)
footprint 217G_L (SOIC, 28-Leads, Body 17.9x7.5mm, Pitch 1.27mm, IPC High Density)
footprint 217G_M (SOIC, 28-Leads, Body 17.9x7.5mm, Pitch 1.27mm, IPC Low Density)
3D model 217G (28-Pin Small Outline Integrated Circuit 1.27 mm Pitch)
pins: 1 IN R1 (in), 2 AGND1 (power), 3 IN R2 (in), 4 CAP, 5 REF (io), 6 AGND2 (power), 7 SB/~{BTC} (in), 8 EXT/~{INT} (in), 9 D7 (hiz), 10 D6 (hiz), 11 D5 (hiz), 12 D4 (hiz), 13 D3 (hiz), 14 DGND (power), 15 D2 (hiz), 16 D1 (hiz), 17 D0 (hiz), 18 DCLK (io), 19 SDA (out), 20 TAG (in), 21 BYTE (in), 22 R/~{C} (in), 23 ~{CS} (in), 24 ~{BUSY} (out), 25 PDN (in), 26 REFD (in), 27 V+ (power), 28 VD+ (power)

## ADS7807P
designator U?
Low-Power 16-Bit Sampling CMOS Analog-to-Digital Converter; Published: 8-Jun-2000; LatestRevisionDate: 06-Jun-2005; LatestRevisionNote: Stylized 3D Model Added.; DatasheetVersion: Nov-1994; PackageVersion: revD; PackageReference: 246D; Publisher: Altium Limited; PackageDescription: DIP; 28 Leads; Row Spacing 7.62 mm; Pitch 2.54 mm; ComponentLink1Description: Manufacturer Link; ComponentLink1URL: http://www.ti.com/; ComponentLink2Description: Datasheet; ComponentLink2URL: http://www-s.ti.com/sc/ds/ADS7807.pdf
footprint 246D (DIP; 28 Leads; Row Spacing 7.62 mm; Pitch 2.54 mm)
3D model 246D (DIP; 28 Leads; Row Spacing 7.62 mm; Pitch 2.54 mm)
pins: 1 IN R1 (in), 2 AGND1 (power), 3 IN R2 (in), 4 CAP, 5 REF (io), 6 AGND2 (power), 7 SB/~{BTC} (in), 8 EXT/~{INT} (in), 9 D7 (hiz), 10 D6 (hiz), 11 D5 (hiz), 12 D4 (hiz), 13 D3 (hiz), 14 DGND (power), 15 D2 (hiz), 16 D1 (hiz), 17 D0 (hiz), 18 DCLK (io), 19 SDA (out), 20 TAG (in), 21 BYTE (in), 22 R/~{C} (in), 23 ~{CS} (in), 24 ~{BUSY} (out), 25 PDN (in), 26 REFD (in), 27 V+ (power), 28 VD+ (power)

## ADS7807PB
designator U?
Low-Power 16-Bit Sampling CMOS Analog-to-Digital Converter; Published: 8-Jun-2000; LatestRevisionDate: 06-Jun-2005; LatestRevisionNote: Stylized 3D Model Added.; DatasheetVersion: Nov-1994; PackageVersion: revD; PackageReference: 246D; Publisher: Altium Limited; PackageDescription: DIP; 28 Leads; Row Spacing 7.62 mm; Pitch 2.54 mm; ComponentLink1Description: Manufacturer Link; ComponentLink1URL: http://www.ti.com/; ComponentLink2Description: Datasheet; ComponentLink2URL: http://www-s.ti.com/sc/ds/ADS7807.pdf
footprint 246D (DIP; 28 Leads; Row Spacing 7.62 mm; Pitch 2.54 mm)
3D model 246D (DIP; 28 Leads; Row Spacing 7.62 mm; Pitch 2.54 mm)
pins: 1 IN R1 (in), 2 AGND1 (power), 3 IN R2 (in), 4 CAP, 5 REF (io), 6 AGND2 (power), 7 SB/~{BTC} (in), 8 EXT/~{INT} (in), 9 D7 (hiz), 10 D6 (hiz), 11 D5 (hiz), 12 D4 (hiz), 13 D3 (hiz), 14 DGND (power), 15 D2 (hiz), 16 D1 (hiz), 17 D0 (hiz), 18 DCLK (io), 19 SDA (out), 20 TAG (in), 21 BYTE (in), 22 R/~{C} (in), 23 ~{CS} (in), 24 ~{BUSY} (out), 25 PDN (in), 26 REFD (in), 27 V+ (power), 28 VD+ (power)

## ADS7807U
designator U?
Low-Power 16-Bit Sampling CMOS Analog-to-Digital Converter; Published: 8-Jun-2000; LatestRevisionDate: 13-Apr-2006; LatestRevisionNote: IPC-7351 Footprint Added.; DatasheetVersion: Nov-1994; PackageReference: 217G; Publisher: Altium Limited; PackageDescription: 28-Pin Small Outline Integrated Circuit 1.27 mm Pitch; ComponentLink1Description: Manufacturer Link; ComponentLink1URL: http://www.ti.com/; ComponentLink2Description: Datasheet; ComponentLink2URL: http://www-s.ti.com/sc/ds/ADS7807.pdf
footprint 217G_N (SOIC, 28-Leads, Body 17.9x7.5mm, Pitch 1.27mm, IPC Medium Density)
footprint 217G_L (SOIC, 28-Leads, Body 17.9x7.5mm, Pitch 1.27mm, IPC High Density)
footprint 217G_M (SOIC, 28-Leads, Body 17.9x7.5mm, Pitch 1.27mm, IPC Low Density)
3D model 217G (28-Pin Small Outline Integrated Circuit 1.27 mm Pitch)
pins: 1 IN R1 (in), 2 AGND1 (power), 3 IN R2 (in), 4 CAP, 5 REF (io), 6 AGND2 (power), 7 SB/~{BTC} (in), 8 EXT/~{INT} (in), 9 D7 (hiz), 10 D6 (hiz), 11 D5 (hiz), 12 D4 (hiz), 13 D3 (hiz), 14 DGND (power), 15 D2 (hiz), 16 D1 (hiz), 17 D0 (hiz), 18 DCLK (io), 19 SDA (out), 20 TAG (in), 21 BYTE (in), 22 R/~{C} (in), 23 ~{CS} (in), 24 ~{BUSY} (out), 25 PDN (in), 26 REFD (in), 27 V+ (power), 28 VD+ (power)

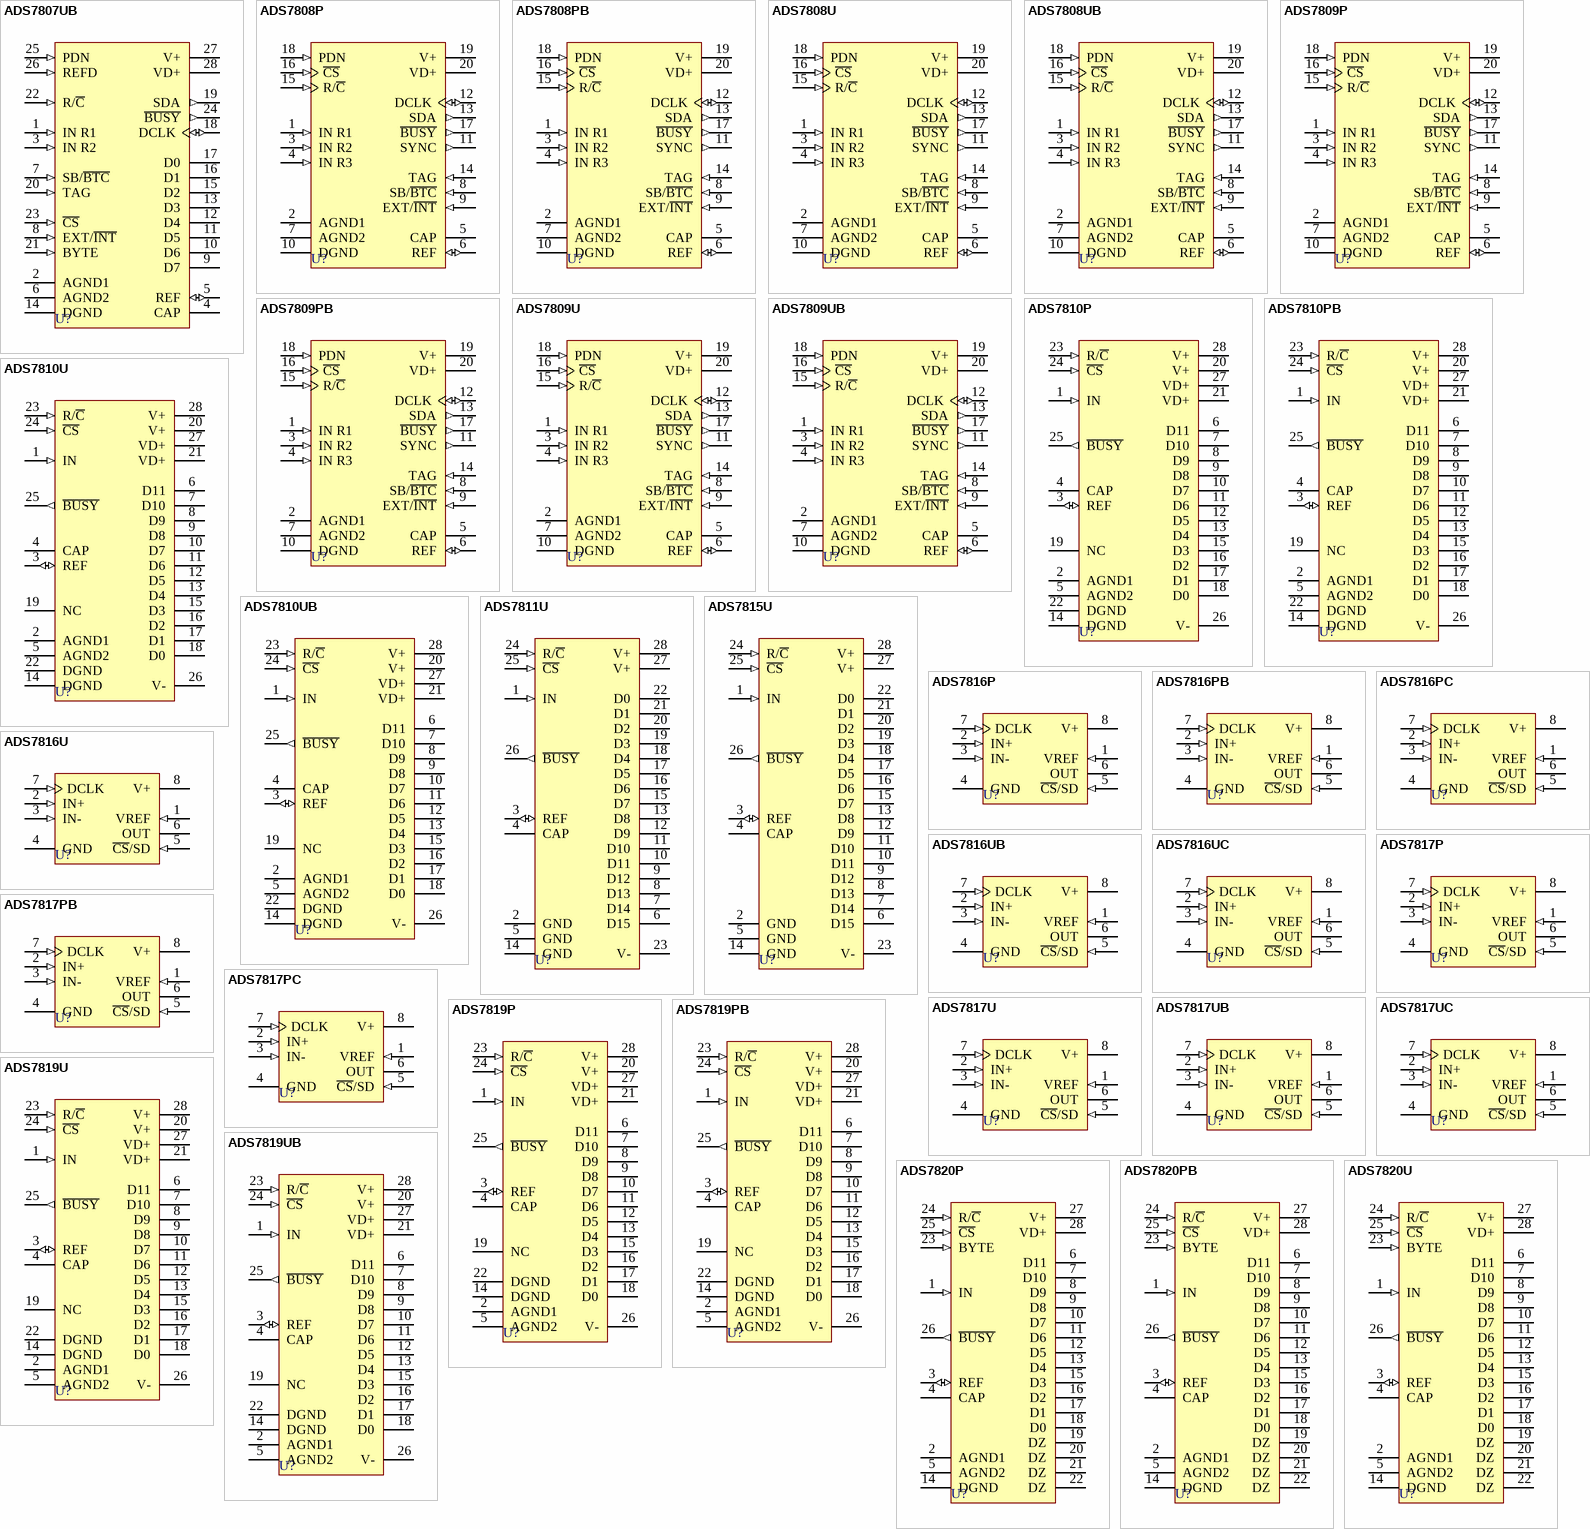
[diagram p7: symbols ADS7807UB to ADS7820U]

## ADS7807UB
designator U?
Low-Power 16-Bit Sampling CMOS Analog-to-Digital Converter; Published: 8-Jun-2000; LatestRevisionDate: 13-Apr-2006; LatestRevisionNote: IPC-7351 Footprint Added.; DatasheetVersion: Nov-1994; PackageReference: 217G; Publisher: Altium Limited; PackageDescription: 28-Pin Small Outline Integrated Circuit 1.27 mm Pitch; ComponentLink1Description: Manufacturer Link; ComponentLink1URL: http://www.ti.com/; ComponentLink2Description: Datasheet; ComponentLink2URL: http://www-s.ti.com/sc/ds/ADS7807.pdf
footprint 217G_N (SOIC, 28-Leads, Body 17.9x7.5mm, Pitch 1.27mm, IPC Medium Density)
footprint 217G_L (SOIC, 28-Leads, Body 17.9x7.5mm, Pitch 1.27mm, IPC High Density)
footprint 217G_M (SOIC, 28-Leads, Body 17.9x7.5mm, Pitch 1.27mm, IPC Low Density)
3D model 217G (28-Pin Small Outline Integrated Circuit 1.27 mm Pitch)
pins: 1 IN R1 (in), 2 AGND1 (power), 3 IN R2 (in), 4 CAP, 5 REF (io), 6 AGND2 (power), 7 SB/~{BTC} (in), 8 EXT/~{INT} (in), 9 D7 (hiz), 10 D6 (hiz), 11 D5 (hiz), 12 D4 (hiz), 13 D3 (hiz), 14 DGND (power), 15 D2 (hiz), 16 D1 (hiz), 17 D0 (hiz), 18 DCLK (io), 19 SDA (out), 20 TAG (in), 21 BYTE (in), 22 R/~{C} (in), 23 ~{CS} (in), 24 ~{BUSY} (out), 25 PDN (in), 26 REFD (in), 27 V+ (power), 28 VD+ (power)

## ADS7808P
designator U?
12-Bit 10us Serial CMOS Sampling Analog-to-Digital Converter; Published: 8-Jun-2000; LatestRevisionDate: 06-Jun-2005; LatestRevisionNote: Stylized 3D Model Added.; DatasheetVersion: Jan-1997; PackageVersion: revC; PackageReference: 222C; Publisher: Altium Limited; PackageDescription: DIP; 20 Leads; Row Spacing 7.62 mm; Pitch 2.54 mm; Code_JEDEC: MS-001-AD; ComponentLink1Description: Manufacturer Link; ComponentLink1URL: http://www.ti.com/; ComponentLink2Description: Datasheet; ComponentLink2URL: http://www-s.ti.com/sc/ds/ADS7808.pdf
footprint 222C (DIP; 20 Leads; Row Spacing 7.62 mm; Pitch 2.54 mm)
3D model 222 (DIP; 20 Leads; Row Spacing 7.62 mm; Pitch 2.54 mm)
pins: 1 IN R1 (in), 2 AGND1 (power), 3 IN R2 (in), 4 IN R3 (in), 5 CAP, 6 REF (io), 7 AGND2 (power), 8 SB/~{BTC} (in), 9 EXT/~{INT} (in), 10 DGND (power), 11 SYNC (out), 12 DCLK (io), 13 SDA (out), 14 TAG (in), 15 R/~{C} (in), 16 ~{CS} (in), 17 ~{BUSY} (out), 18 PDN (in), 19 V+ (power), 20 VD+ (power)

## ADS7808PB
designator U?
12-Bit 10us Serial CMOS Sampling Analog-to-Digital Converter; Published: 8-Jun-2000; LatestRevisionDate: 06-Jun-2005; LatestRevisionNote: Stylized 3D Model Added.; DatasheetVersion: Jan-1997; PackageVersion: revC; PackageReference: 222C; Publisher: Altium Limited; PackageDescription: DIP; 20 Leads; Row Spacing 7.62 mm; Pitch 2.54 mm; Code_JEDEC: MS-001-AD; ComponentLink1Description: Manufacturer Link; ComponentLink1URL: http://www.ti.com/; ComponentLink2Description: Datasheet; ComponentLink2URL: http://www-s.ti.com/sc/ds/ADS7808.pdf
footprint 222C (DIP; 20 Leads; Row Spacing 7.62 mm; Pitch 2.54 mm)
3D model 222 (DIP; 20 Leads; Row Spacing 7.62 mm; Pitch 2.54 mm)
pins: 1 IN R1 (in), 2 AGND1 (power), 3 IN R2 (in), 4 IN R3 (in), 5 CAP, 6 REF (io), 7 AGND2 (power), 8 SB/~{BTC} (in), 9 EXT/~{INT} (in), 10 DGND (power), 11 SYNC (out), 12 DCLK (io), 13 SDA (out), 14 TAG (in), 15 R/~{C} (in), 16 ~{CS} (in), 17 ~{BUSY} (out), 18 PDN (in), 19 V+ (power), 20 VD+ (power)

## ADS7808U
designator U?
12-Bit 10us Serial CMOS Sampling Analog-to-Digital Converter; Published: 8-Jun-2000; LatestRevisionDate: 13-Apr-2006; LatestRevisionNote: IPC-7351 Footprint Added.; DatasheetVersion: Jan-1997; PackageReference: 221D; Publisher: Altium Limited; PackageDescription: 20-Pin Small Outline Integrated Circuit 1.27 mm Pitch; Code_JEDEC: MS-013-AC; Code_IPC: SOIC127P1030-20; ComponentLink1Description: Manufacturer Link; ComponentLink1URL: http://www.ti.com/; ComponentLink2Description: Datasheet; ComponentLink2URL: http://www-s.ti.com/sc/ds/ADS7808.pdf
footprint 221D_N (SOIC, 20-Leads, Body 12.8x7.5mm, Pitch 1.27mm, IPC Medium Density)
footprint 221D_L (SOIC, 20-Leads, Body 12.8x7.5mm, Pitch 1.27mm, IPC High Density)
footprint 221D_M (SOIC, 20-Leads, Body 12.8x7.5mm, Pitch 1.27mm, IPC Low Density)
3D model 221 (20-Pin Small Outline Integrated Circuit 1.27 mm Pitch)
pins: 1 IN R1 (in), 2 AGND1 (power), 3 IN R2 (in), 4 IN R3 (in), 5 CAP, 6 REF (io), 7 AGND2 (power), 8 SB/~{BTC} (in), 9 EXT/~{INT} (in), 10 DGND (power), 11 SYNC (out), 12 DCLK (io), 13 SDA (out), 14 TAG (in), 15 R/~{C} (in), 16 ~{CS} (in), 17 ~{BUSY} (out), 18 PDN (in), 19 V+ (power), 20 VD+ (power)

## ADS7808UB
designator U?
12-Bit 10us Serial CMOS Sampling Analog-to-Digital Converter; Published: 8-Jun-2000; LatestRevisionDate: 13-Apr-2006; LatestRevisionNote: IPC-7351 Footprint Added.; DatasheetVersion: Jan-1997; PackageReference: 221D; Publisher: Altium Limited; PackageDescription: 20-Pin Small Outline Integrated Circuit 1.27 mm Pitch; Code_JEDEC: MS-013-AC; Code_IPC: SOIC127P1030-20; ComponentLink1Description: Manufacturer Link; ComponentLink1URL: http://www.ti.com/; ComponentLink2Description: Datasheet; ComponentLink2URL: http://www-s.ti.com/sc/ds/ADS7808.pdf
footprint 221D_N (SOIC, 20-Leads, Body 12.8x7.5mm, Pitch 1.27mm, IPC Medium Density)
footprint 221D_L (SOIC, 20-Leads, Body 12.8x7.5mm, Pitch 1.27mm, IPC High Density)
footprint 221D_M (SOIC, 20-Leads, Body 12.8x7.5mm, Pitch 1.27mm, IPC Low Density)
3D model 221 (20-Pin Small Outline Integrated Circuit 1.27 mm Pitch)
pins: 1 IN R1 (in), 2 AGND1 (power), 3 IN R2 (in), 4 IN R3 (in), 5 CAP, 6 REF (io), 7 AGND2 (power), 8 SB/~{BTC} (in), 9 EXT/~{INT} (in), 10 DGND (power), 11 SYNC (out), 12 DCLK (io), 13 SDA (out), 14 TAG (in), 15 R/~{C} (in), 16 ~{CS} (in), 17 ~{BUSY} (out), 18 PDN (in), 19 V+ (power), 20 VD+ (power)

## ADS7809P
designator U?
16-Bit 10us Serial CMOS Sampling Analog-to-Digital Converter; Published: 8-Jun-2000; LatestRevisionDate: 06-Jun-2005; LatestRevisionNote: Stylized 3D Model Added.; DatasheetVersion: Nov-1996; PackageVersion: revC; PackageReference: 222C; Publisher: Altium Limited; PackageDescription: DIP; 20 Leads; Row Spacing 7.62 mm; Pitch 2.54 mm; Code_JEDEC: MS-001-AD; ComponentLink1Description: Manufacturer Link; ComponentLink1URL: http://www.ti.com/; ComponentLink2Description: Datasheet; ComponentLink2URL: http://www-s.ti.com/sc/ds/ADS7809.pdf
footprint 222C (DIP; 20 Leads; Row Spacing 7.62 mm; Pitch 2.54 mm)
3D model 222 (DIP; 20 Leads; Row Spacing 7.62 mm; Pitch 2.54 mm)
pins: 1 IN R1 (in), 2 AGND1 (power), 3 IN R2 (in), 4 IN R3 (in), 5 CAP, 6 REF (io), 7 AGND2 (power), 8 SB/~{BTC} (in), 9 EXT/~{INT} (in), 10 DGND (power), 11 SYNC (out), 12 DCLK (io), 13 SDA (out), 14 TAG (in), 15 R/~{C} (in), 16 ~{CS} (in), 17 ~{BUSY} (out), 18 PDN (in), 19 V+ (power), 20 VD+ (power)

## ADS7809PB
designator U?
16-Bit 10us Serial CMOS Sampling Analog-to-Digital Converter; Published: 8-Jun-2000; LatestRevisionDate: 06-Jun-2005; LatestRevisionNote: Stylized 3D Model Added.; DatasheetVersion: Nov-1996; PackageVersion: revC; PackageReference: 222C; Publisher: Altium Limited; PackageDescription: DIP; 20 Leads; Row Spacing 7.62 mm; Pitch 2.54 mm; Code_JEDEC: MS-001-AD; ComponentLink1Description: Manufacturer Link; ComponentLink1URL: http://www.ti.com/; ComponentLink2Description: Datasheet; ComponentLink2URL: http://www-s.ti.com/sc/ds/ADS7809.pdf
footprint 222C (DIP; 20 Leads; Row Spacing 7.62 mm; Pitch 2.54 mm)
3D model 222 (DIP; 20 Leads; Row Spacing 7.62 mm; Pitch 2.54 mm)
pins: 1 IN R1 (in), 2 AGND1 (power), 3 IN R2 (in), 4 IN R3 (in), 5 CAP, 6 REF (io), 7 AGND2 (power), 8 SB/~{BTC} (in), 9 EXT/~{INT} (in), 10 DGND (power), 11 SYNC (out), 12 DCLK (io), 13 SDA (out), 14 TAG (in), 15 R/~{C} (in), 16 ~{CS} (in), 17 ~{BUSY} (out), 18 PDN (in), 19 V+ (power), 20 VD+ (power)

## ADS7809U
designator U?
16-Bit 10us Serial CMOS Sampling Analog-to-Digital Converter; Published: 8-Jun-2000; LatestRevisionDate: 13-Apr-2006; LatestRevisionNote: IPC-7351 Footprint Added.; DatasheetVersion: Nov-1996; PackageReference: 221D; Publisher: Altium Limited; PackageDescription: 20-Pin Small Outline Integrated Circuit 1.27 mm Pitch; Code_JEDEC: MS-013-AC; Code_IPC: SOIC127P1030-20; ComponentLink1Description: Manufacturer Link; ComponentLink1URL: http://www.ti.com/; ComponentLink2Description: Datasheet; ComponentLink2URL: http://www-s.ti.com/sc/ds/ADS7809.pdf
footprint 221D_N (SOIC, 20-Leads, Body 12.8x7.5mm, Pitch 1.27mm, IPC Medium Density)
footprint 221D_L (SOIC, 20-Leads, Body 12.8x7.5mm, Pitch 1.27mm, IPC High Density)
footprint 221D_M (SOIC, 20-Leads, Body 12.8x7.5mm, Pitch 1.27mm, IPC Low Density)
3D model 221 (20-Pin Small Outline Integrated Circuit 1.27 mm Pitch)
pins: 1 IN R1 (in), 2 AGND1 (power), 3 IN R2 (in), 4 IN R3 (in), 5 CAP, 6 REF (io), 7 AGND2 (power), 8 SB/~{BTC} (in), 9 EXT/~{INT} (in), 10 DGND (power), 11 SYNC (out), 12 DCLK (io), 13 SDA (out), 14 TAG (in), 15 R/~{C} (in), 16 ~{CS} (in), 17 ~{BUSY} (out), 18 PDN (in), 19 V+ (power), 20 VD+ (power)

## ADS7809UB
designator U?
16-Bit 10us Serial CMOS Sampling Analog-to-Digital Converter; Published: 8-Jun-2000; LatestRevisionDate: 13-Apr-2006; LatestRevisionNote: IPC-7351 Footprint Added.; DatasheetVersion: Nov-1996; PackageReference: 221D; Publisher: Altium Limited; PackageDescription: 20-Pin Small Outline Integrated Circuit 1.27 mm Pitch; Code_JEDEC: MS-013-AC; Code_IPC: SOIC127P1030-20; ComponentLink1Description: Manufacturer Link; ComponentLink1URL: http://www.ti.com/; ComponentLink2Description: Datasheet; ComponentLink2URL: http://www-s.ti.com/sc/ds/ADS7809.pdf
footprint 221D_N (SOIC, 20-Leads, Body 12.8x7.5mm, Pitch 1.27mm, IPC Medium Density)
footprint 221D_L (SOIC, 20-Leads, Body 12.8x7.5mm, Pitch 1.27mm, IPC High Density)
footprint 221D_M (SOIC, 20-Leads, Body 12.8x7.5mm, Pitch 1.27mm, IPC Low Density)
3D model 221 (20-Pin Small Outline Integrated Circuit 1.27 mm Pitch)
pins: 1 IN R1 (in), 2 AGND1 (power), 3 IN R2 (in), 4 IN R3 (in), 5 CAP, 6 REF (io), 7 AGND2 (power), 8 SB/~{BTC} (in), 9 EXT/~{INT} (in), 10 DGND (power), 11 SYNC (out), 12 DCLK (io), 13 SDA (out), 14 TAG (in), 15 R/~{C} (in), 16 ~{CS} (in), 17 ~{BUSY} (out), 18 PDN (in), 19 V+ (power), 20 VD+ (power)

## ADS7810P
designator U?
12-Bit 800KHz Sampling CMOS Analog-to-Digital Converter; Note: Pin 19 is No internal Connection (NC) pin.; Published: 8-Jun-2000; LatestRevisionDate: 06-Jun-2005; LatestRevisionNote: Stylized 3D Model Added.; DatasheetVersion: 1994; PackageVersion: revD; PackageReference: 246D; Publisher: Altium Limited; PackageDescription: DIP; 28 Leads; Row Spacing 7.62 mm; Pitch 2.54 mm; ComponentLink1Description: Manufacturer Link; ComponentLink1URL: http://www.ti.com/; ComponentLink2Description: Datasheet; ComponentLink2URL: http://www-s.ti.com/sc/ds/ADS7809.pdf
footprint 246D (DIP; 28 Leads; Row Spacing 7.62 mm; Pitch 2.54 mm)
3D model 246D (DIP; 28 Leads; Row Spacing 7.62 mm; Pitch 2.54 mm)
pins: 1 IN (in), 2 AGND1 (power), 3 REF (io), 4 CAP, 5 AGND2 (power), 6 D11 (hiz), 7 D10 (hiz), 8 D9 (hiz), 9 D8 (hiz), 10 D7 (hiz), 11 D6 (hiz), 12 D5 (hiz), 13 D4 (hiz), 14 DGND (power), 15 D3 (hiz), 16 D2 (hiz), 17 D1 (hiz), 18 D0 (hiz), 19 NC, 20 V+ (power), 21 VD+ (power), 22 DGND (power), 23 R/~{C} (in), 24 ~{CS} (in), 25 ~{BUSY} (out), 26 V- (power), 27 VD+ (power), 28 V+ (power)

## ADS7810PB
designator U?
12-Bit 800KHz Sampling CMOS Analog-to-Digital Converter; Note: Pin 19 is No internal Connection (NC) pin.; Published: 8-Jun-2000; LatestRevisionDate: 06-Jun-2005; LatestRevisionNote: Stylized 3D Model Added.; DatasheetVersion: 1994; PackageVersion: revD; PackageReference: 246D; Publisher: Altium Limited; PackageDescription: DIP; 28 Leads; Row Spacing 7.62 mm; Pitch 2.54 mm; ComponentLink1Description: Manufacturer Link; ComponentLink1URL: http://www.ti.com/; ComponentLink2Description: Datasheet; ComponentLink2URL: http://www-s.ti.com/sc/ds/ADS7809.pdf
footprint 246D (DIP; 28 Leads; Row Spacing 7.62 mm; Pitch 2.54 mm)
3D model 246D (DIP; 28 Leads; Row Spacing 7.62 mm; Pitch 2.54 mm)
pins: 1 IN (in), 2 AGND1 (power), 3 REF (io), 4 CAP, 5 AGND2 (power), 6 D11 (hiz), 7 D10 (hiz), 8 D9 (hiz), 9 D8 (hiz), 10 D7 (hiz), 11 D6 (hiz), 12 D5 (hiz), 13 D4 (hiz), 14 DGND (power), 15 D3 (hiz), 16 D2 (hiz), 17 D1 (hiz), 18 D0 (hiz), 19 NC, 20 V+ (power), 21 VD+ (power), 22 DGND (power), 23 R/~{C} (in), 24 ~{CS} (in), 25 ~{BUSY} (out), 26 V- (power), 27 VD+ (power), 28 V+ (power)

## ADS7810U
designator U?
12-Bit 800KHz Sampling CMOS Analog-to-Digital Converter; Note: Pin 19 is No internal Connection (NC) pin.; Published: 8-Jun-2000; LatestRevisionDate: 13-Apr-2006; LatestRevisionNote: IPC-7351 Footprint Added.; DatasheetVersion: Mar-1998; PackageReference: 217G; Publisher: Altium Limited; PackageDescription: 28-Pin Small Outline Integrated Circuit 1.27 mm Pitch; ComponentLink1Description: Manufacturer Link; ComponentLink1URL: http://www.ti.com/; ComponentLink2Description: Datasheet; ComponentLink2URL: http://www-s.ti.com/sc/ds/ADS7810.pdf
footprint 217G_N (SOIC, 28-Leads, Body 17.9x7.5mm, Pitch 1.27mm, IPC Medium Density)
footprint 217G_L (SOIC, 28-Leads, Body 17.9x7.5mm, Pitch 1.27mm, IPC High Density)
footprint 217G_M (SOIC, 28-Leads, Body 17.9x7.5mm, Pitch 1.27mm, IPC Low Density)
3D model 217G (28-Pin Small Outline Integrated Circuit 1.27 mm Pitch)
pins: 1 IN (in), 2 AGND1 (power), 3 REF (io), 4 CAP, 5 AGND2 (power), 6 D11 (hiz), 7 D10 (hiz), 8 D9 (hiz), 9 D8 (hiz), 10 D7 (hiz), 11 D6 (hiz), 12 D5 (hiz), 13 D4 (hiz), 14 DGND (power), 15 D3 (hiz), 16 D2 (hiz), 17 D1 (hiz), 18 D0 (hiz), 19 NC, 20 V+ (power), 21 VD+ (power), 22 DGND (power), 23 R/~{C} (in), 24 ~{CS} (in), 25 ~{BUSY} (out), 26 V- (power), 27 VD+ (power), 28 V+ (power)

## ADS7810UB
designator U?
12-Bit 800KHz Sampling CMOS Analog-to-Digital Converter; Note: Pin 19 is No internal Connection (NC) pin.; Published: 8-Jun-2000; LatestRevisionDate: 13-Apr-2006; LatestRevisionNote: IPC-7351 Footprint Added.; DatasheetVersion: Mar-1998; PackageReference: 217G; Publisher: Altium Limited; PackageDescription: 28-Pin Small Outline Integrated Circuit 1.27 mm Pitch; ComponentLink1Description: Manufacturer Link; ComponentLink1URL: http://www.ti.com/; ComponentLink2Description: Datasheet; ComponentLink2URL: http://www-s.ti.com/sc/ds/ADS7810.pdf
footprint 217G_N (SOIC, 28-Leads, Body 17.9x7.5mm, Pitch 1.27mm, IPC Medium Density)
footprint 217G_L (SOIC, 28-Leads, Body 17.9x7.5mm, Pitch 1.27mm, IPC High Density)
footprint 217G_M (SOIC, 28-Leads, Body 17.9x7.5mm, Pitch 1.27mm, IPC Low Density)
3D model 217G (28-Pin Small Outline Integrated Circuit 1.27 mm Pitch)
pins: 1 IN (in), 2 AGND1 (power), 3 REF (io), 4 CAP, 5 AGND2 (power), 6 D11 (hiz), 7 D10 (hiz), 8 D9 (hiz), 9 D8 (hiz), 10 D7 (hiz), 11 D6 (hiz), 12 D5 (hiz), 13 D4 (hiz), 14 DGND (power), 15 D3 (hiz), 16 D2 (hiz), 17 D1 (hiz), 18 D0 (hiz), 19 NC, 20 V+ (power), 21 VD+ (power), 22 DGND (power), 23 R/~{C} (in), 24 ~{CS} (in), 25 ~{BUSY} (out), 26 V- (power), 27 VD+ (power), 28 V+ (power)

## ADS7811U
designator U?
16-Bit 250KHz Sampling CMOS Analog-to-Digital Converter; Published: 8-Jun-2000; LatestRevisionDate: 13-Apr-2006; LatestRevisionNote: IPC-7351 Footprint Added.; DatasheetVersion: Nov-1997; PackageReference: 217G; Publisher: Altium Limited; PackageDescription: 28-Pin Small Outline Integrated Circuit 1.27 mm Pitch; ComponentLink1Description: Manufacturer Link; ComponentLink1URL: http://www.ti.com/; ComponentLink2Description: Datasheet; ComponentLink2URL: http://www-s.ti.com/sc/ds/ADS7811.pdf
footprint 217G_N (SOIC, 28-Leads, Body 17.9x7.5mm, Pitch 1.27mm, IPC Medium Density)
footprint 217G_L (SOIC, 28-Leads, Body 17.9x7.5mm, Pitch 1.27mm, IPC High Density)
footprint 217G_M (SOIC, 28-Leads, Body 17.9x7.5mm, Pitch 1.27mm, IPC Low Density)
3D model 217G (28-Pin Small Outline Integrated Circuit 1.27 mm Pitch)
pins: 1 IN (in), 2 GND (power), 3 REF (io), 4 CAP, 5 GND (power), 6 D15 (hiz), 7 D14 (hiz), 8 D13 (hiz), 9 D12 (hiz), 10 D11 (hiz), 11 D10 (hiz), 12 D9 (hiz), 13 D8 (hiz), 14 GND (power), 15 D7 (hiz), 16 D6 (hiz), 17 D5 (hiz), 18 D4 (hiz), 19 D3 (hiz), 20 D2 (hiz), 21 D1 (hiz), 22 D0 (hiz), 23 V- (power), 24 R/~{C} (in), 25 ~{CS} (in), 26 ~{BUSY} (out), 27 V+ (power), 28 V+ (power)

## ADS7815U
designator U?
16-Bit 250KHz Sampling CMOS Analog-to-Digital Converter; Published: 8-Jun-2000; LatestRevisionDate: 13-Apr-2006; LatestRevisionNote: IPC-7351 Footprint Added.; DatasheetVersion: Dec-1996; PackageReference: 217G; Publisher: Altium Limited; PackageDescription: 28-Pin Small Outline Integrated Circuit 1.27 mm Pitch; ComponentLink1Description: Manufacturer Link; ComponentLink1URL: http://www.ti.com/; ComponentLink2Description: Datasheet; ComponentLink2URL: http://www-s.ti.com/sc/ds/ADS7815.pdf
footprint 217G_N (SOIC, 28-Leads, Body 17.9x7.5mm, Pitch 1.27mm, IPC Medium Density)
footprint 217G_L (SOIC, 28-Leads, Body 17.9x7.5mm, Pitch 1.27mm, IPC High Density)
footprint 217G_M (SOIC, 28-Leads, Body 17.9x7.5mm, Pitch 1.27mm, IPC Low Density)
3D model 217G (28-Pin Small Outline Integrated Circuit 1.27 mm Pitch)
pins: 1 IN (in), 2 GND (power), 3 REF (io), 4 CAP, 5 GND (power), 6 D15 (hiz), 7 D14 (hiz), 8 D13 (hiz), 9 D12 (hiz), 10 D11 (hiz), 11 D10 (hiz), 12 D9 (hiz), 13 D8 (hiz), 14 GND (power), 15 D7 (hiz), 16 D6 (hiz), 17 D5 (hiz), 18 D4 (hiz), 19 D3 (hiz), 20 D2 (hiz), 21 D1 (hiz), 22 D0 (hiz), 23 V- (power), 24 R/~{C} (in), 25 ~{CS} (in), 26 ~{BUSY} (out), 27 V+ (power), 28 V+ (power)

## ADS7816P
designator U?
12-Bit High-Speed Micro Power Sampling Analog-to-Digital Converter; Published: 8-Jun-2000; LatestRevisionDate: 06-Jun-2005; LatestRevisionNote: Stylized 3D Model Added.; DatasheetVersion: Mar-1997; PackageVersion: revE; PackageReference: 006E; Publisher: Altium Limited; PackageDescription: DIP; 8 Leads; Row Spacing 7.62 mm; Pitch 2.54 mm; ComponentLink1Description: Manufacturer Link; ComponentLink1URL: http://www.ti.com/; ComponentLink2Description: Datasheet; ComponentLink2URL: http://www-s.ti.com/sc/ds/ADS7816.pdf
footprint 006E (DIP; 8 Leads; Row Spacing 7.62 mm; Pitch 2.54 mm)
3D model DIP8 (DIP; 8 Leads; Row Spacing 7.62 mm; Pitch 2.54 mm)
pins: 1 VREF (in), 2 IN+ (in), 3 IN- (in), 4 GND (power), 5 ~{CS}/SD (in), 6 OUT (hiz), 7 DCLK (in), 8 V+ (power)

## ADS7816PB
designator U?
12-Bit High-Speed Micro Power Sampling Analog-to-Digital Converter; Published: 8-Jun-2000; LatestRevisionDate: 06-Jun-2005; LatestRevisionNote: Stylized 3D Model Added.; DatasheetVersion: Mar-1997; PackageVersion: revE; PackageReference: 006E; Publisher: Altium Limited; PackageDescription: DIP; 8 Leads; Row Spacing 7.62 mm; Pitch 2.54 mm; ComponentLink1Description: Manufacturer Link; ComponentLink1URL: http://www.ti.com/; ComponentLink2Description: Datasheet; ComponentLink2URL: http://www-s.ti.com/sc/ds/ADS7816.pdf
footprint 006E (DIP; 8 Leads; Row Spacing 7.62 mm; Pitch 2.54 mm)
3D model DIP8 (DIP; 8 Leads; Row Spacing 7.62 mm; Pitch 2.54 mm)
pins: 1 VREF (in), 2 IN+ (in), 3 IN- (in), 4 GND (power), 5 ~{CS}/SD (in), 6 OUT (hiz), 7 DCLK (in), 8 V+ (power)

## ADS7816PC
designator U?
12-Bit High-Speed Micro Power Sampling Analog-to-Digital Converter; Published: 8-Jun-2000; LatestRevisionDate: 06-Jun-2005; LatestRevisionNote: Stylized 3D Model Added.; DatasheetVersion: Mar-1997; PackageVersion: revE; PackageReference: 006E; Publisher: Altium Limited; PackageDescription: DIP; 8 Leads; Row Spacing 7.62 mm; Pitch 2.54 mm; ComponentLink1Description: Manufacturer Link; ComponentLink1URL: http://www.ti.com/; ComponentLink2Description: Datasheet; ComponentLink2URL: http://www-s.ti.com/sc/ds/ADS7816.pdf
footprint 006E (DIP; 8 Leads; Row Spacing 7.62 mm; Pitch 2.54 mm)
3D model DIP8 (DIP; 8 Leads; Row Spacing 7.62 mm; Pitch 2.54 mm)
pins: 1 VREF (in), 2 IN+ (in), 3 IN- (in), 4 GND (power), 5 ~{CS}/SD (in), 6 OUT (hiz), 7 DCLK (in), 8 V+ (power)

## ADS7816U
designator U?
12-Bit High-Speed Micro Power Sampling Analog-to-Digital Converter; Published: 8-Jun-2000; LatestRevisionDate: 13-Apr-2006; LatestRevisionNote: IPC-7351 Footprint Added.; DatasheetVersion: Mar-1997; PackageReference: 182H; Publisher: Altium Limited; PackageDescription: 8-Pin Small Outline Integrated Circuit 1.27 mm Pitch; Code_JEDEC: MS-012-AA; Code_IPC: SOIC127P600-8; ComponentLink1Description: Manufacturer Link; ComponentLink1URL: http://www.ti.com/; ComponentLink2Description: Datasheet; ComponentLink2URL: http://www-s.ti.com/sc/ds/ADS7816.pdf
footprint 182H_N (SOIC, 8-Leads, Body 4.9x3.9mm, Pitch 1.27mm, IPC Medium Density)
footprint 182H_L (SOIC, 8-Leads, Body 4.9x3.9mm, Pitch 1.27mm, IPC High Density)
footprint 182H_M (SOIC, 8-Leads, Body 4.9x3.9mm, Pitch 1.27mm, IPC Low Density)
3D model SOIC8 (8-Pin Small Outline Integrated Circuit 1.27 mm Pitch)
pins: 1 VREF (in), 2 IN+ (in), 3 IN- (in), 4 GND (power), 5 ~{CS}/SD (in), 6 OUT (hiz), 7 DCLK (in), 8 V+ (power)

## ADS7816UB
designator U?
12-Bit High-Speed Micro Power Sampling Analog-to-Digital Converter; Published: 8-Jun-2000; LatestRevisionDate: 13-Apr-2006; LatestRevisionNote: IPC-7351 Footprint Added.; DatasheetVersion: Mar-1997; PackageReference: 182H; Publisher: Altium Limited; PackageDescription: 8-Pin Small Outline Integrated Circuit 1.27 mm Pitch; Code_JEDEC: MS-012-AA; Code_IPC: SOIC127P600-8; ComponentLink1Description: Manufacturer Link; ComponentLink1URL: http://www.ti.com/; ComponentLink2Description: Datasheet; ComponentLink2URL: http://www-s.ti.com/sc/ds/ADS7816.pdf
footprint 182H_N (SOIC, 8-Leads, Body 4.9x3.9mm, Pitch 1.27mm, IPC Medium Density)
footprint 182H_L (SOIC, 8-Leads, Body 4.9x3.9mm, Pitch 1.27mm, IPC High Density)
footprint 182H_M (SOIC, 8-Leads, Body 4.9x3.9mm, Pitch 1.27mm, IPC Low Density)
3D model SOIC8 (8-Pin Small Outline Integrated Circuit 1.27 mm Pitch)
pins: 1 VREF (in), 2 IN+ (in), 3 IN- (in), 4 GND (power), 5 ~{CS}/SD (in), 6 OUT (hiz), 7 DCLK (in), 8 V+ (power)

## ADS7816UC
designator U?
12-Bit High-Speed Micro Power Sampling Analog-to-Digital Converter; Published: 8-Jun-2000; LatestRevisionDate: 13-Apr-2006; LatestRevisionNote: IPC-7351 Footprint Added.; DatasheetVersion: Mar-1997; PackageReference: 182H; Publisher: Altium Limited; PackageDescription: 8-Pin Small Outline Integrated Circuit 1.27 mm Pitch; Code_JEDEC: MS-012-AA; Code_IPC: SOIC127P600-8; ComponentLink1Description: Manufacturer Link; ComponentLink1URL: http://www.ti.com/; ComponentLink2Description: Datasheet; ComponentLink2URL: http://www-s.ti.com/sc/ds/ADS7816.pdf
footprint 182H_N (SOIC, 8-Leads, Body 4.9x3.9mm, Pitch 1.27mm, IPC Medium Density)
footprint 182H_L (SOIC, 8-Leads, Body 4.9x3.9mm, Pitch 1.27mm, IPC High Density)
footprint 182H_M (SOIC, 8-Leads, Body 4.9x3.9mm, Pitch 1.27mm, IPC Low Density)
3D model SOIC8 (8-Pin Small Outline Integrated Circuit 1.27 mm Pitch)
pins: 1 VREF (in), 2 IN+ (in), 3 IN- (in), 4 GND (power), 5 ~{CS}/SD (in), 6 OUT (hiz), 7 DCLK (in), 8 V+ (power)